# Altium schematic symbol library ERJ-UP3F56R0V.SchLib: 1 symbol
Pins are listed as number, name and electrical type; pins without a type are passive.

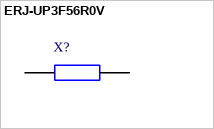
[diagram p0: symbol ERJ-UP3F56R0V]

## ERJ-UP3F56R0V
designator X?
Anti-Sulfurated Thick Film Chip Resistors/ Anti-Surge Type, Power Rating (W): 0.25, Chip Size (LxW(EIA)) (mm): 1.6 x 0.8 (EIA:0603), Resistance Values (?): 56, Resistance Tolerance (%): 1, T.C.R (?102/K): ?100; Manufacturer_Name: Panasonic; Geometry.Height: 0.55mm; Mouser Part Number: 667-ERJ-UP3F56R0V; Mouser Price/Stock: https://www.mouser.co.uk/ProductDetail/Panasonic/ERJ-UP3F56R0V?qs=GedFDFLaBXEVyc%252BpeANJkg%3D%3D; Manufacturer_Part_Number: ERJ-UP3F56R0V; Datasheet Link: https://industrial.panasonic.com/cdbs/www-data/pdf/RDP0000/AOA0000C337.pdf
footprint ERJUP3
pins: 1, 2